# EAGLE library part 16MMDPDT (library Alpha-DPDTPot)
16MMPOT with DPDT Switch
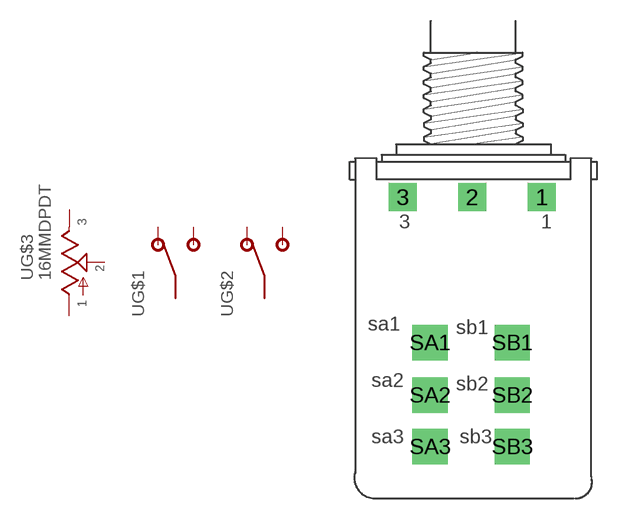
[diagram p0: symbol with the pads of 16MM-PCB-MOUNT-DPDT; footprint 16MM-PCB-MOUNT-DPDT]

Designator prefix -; gates G$1=SPDT G$2=SPDT G$3=POT

## 16MMDPDT  [16MM-PCB-MOUNT-DPDT]
1  G$3:1  pas
2  G$3:2  pas
3  G$3:3  pas
SA1  G$1:1  pas
SA2  G$1:2  pas
SA3  G$1:3  pas
SB1  G$2:1  pas
SB2  G$2:2  pas
SB3  G$2:3  pas

## Footprint 16MM-PCB-MOUNT-DPDT (pad centres in mm)
PCB Mount 16mm Alpha Potentiometer with DPDT
drill 1 pad 2 square: 1 5.055,0; 2 0.051,0; 3 -4.953,0
drill 1.27 pad 2.54 square: SA1 -2.982,-10.49; SA2 -2.982,-14.27; SA3 -2.982,-17.986; SB1 2.934,-10.49; SB2 2.934,-14.27; SB3 2.934,-17.986